# Altium footprint library Altium LCOGT PCB LIB.PCBLIB: 329 footprints (part 3 of 21)
Each footprint in its own frame and in the unit in brackets; x right, y up, seen from the top. Pads: shape width x height; smd on the part's side, far side on the other; paste and mask are expansions set on the pad; w line width, h text height; cw(c..) or ccw(c..) is an arc to the next point about the centre after c.
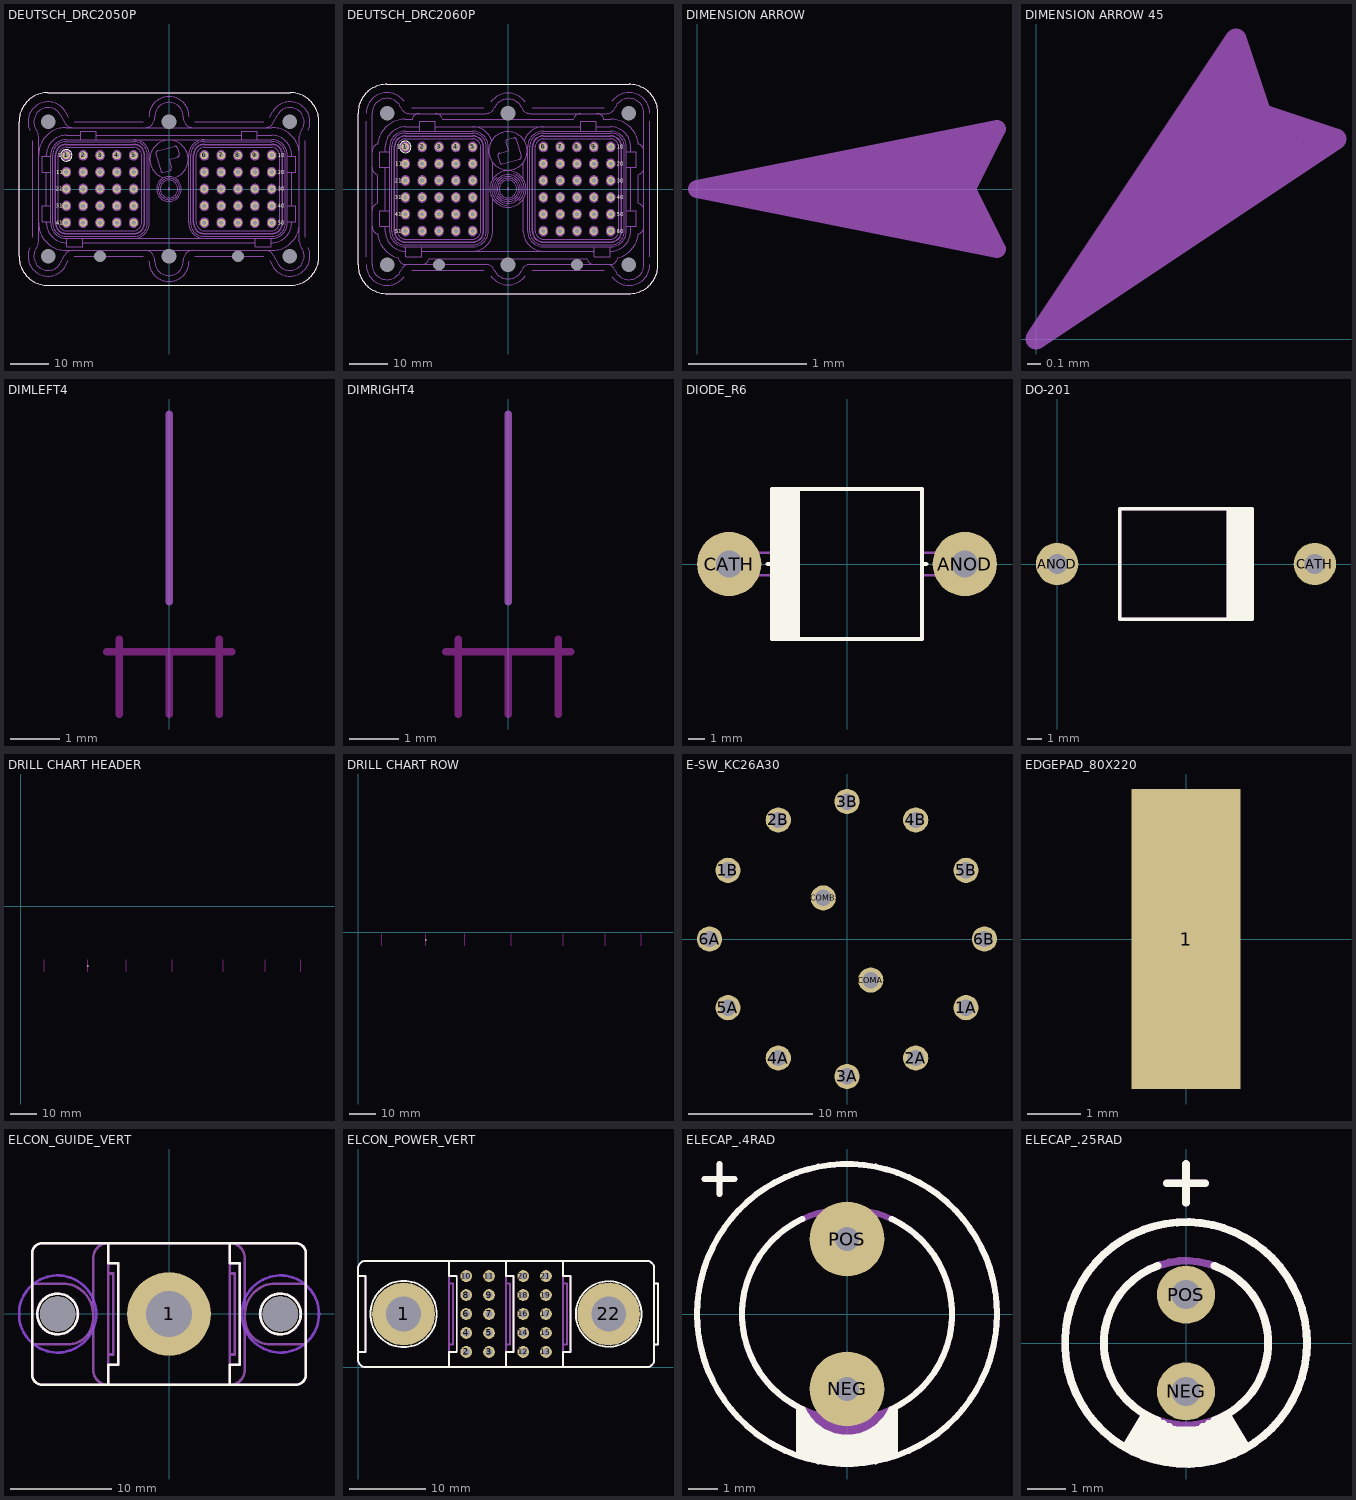
[diagram p2: the footprints below, top view; thin cyan lines are the x and y axes]

## DEUTSCH_DRC2050P [mil]
pads (58):
  round 80 hole 50: 1(-1061,348) 2(-887,348) 3(-713,348) 4(-539,348) 5(-365,348) 6(365,348) 7(539,348) 8(713,348) 9(887,348) 10(1061,348) 11(-1061,174) 12(-887,174) 13(-713,174) 14(-539,174) 15(-365,174) 16(365,174) 17(539,174) 18(713,174) 19(887,174) 20(1061,174) 21(-1061,0) 22(-887,0) 23(-713,0) 24(-539,0) 25(-365,0) 26(365,0) 27(539,0) 28(713,0) 29(887,0) 30(1061,0) 31(-1061,-174) 32(-887,-174) 33(-713,-174) 34(-539,-174) 35(-365,-174) 36(365,-174) 37(539,-174) 38(713,-174) 39(887,-174) 40(1061,-174) 41(-1061,-348) 42(-887,-348) 43(-713,-348) 44(-539,-348) 45(-365,-348) 46(365,-348) 47(539,-348) 48(713,-348) 49(887,-348) 50(1061,-348)
  round 20 hole 150 unplated: ""(-1250,-695) ""(-1250,695) ""(0,-695) ""(0,695) ""(1250,-695) ""(1250,695)
  round 20 hole 122 unplated: ""(-713,-695) ""(713,-695)
TopOverlay:
  circle w8: c-1061,348 r59
  lines w12: -1550,-697 ccw(c-1252,-697) -1252,-995 1252,-995 ccw(c1252,-697) 1550,-697 1550,697 ccw(c1252,697) 1252,995 -1252,995 ccw(c-1252,697) -1550,697 -1550,-697
  text "21" at -1171,-20 h40
  text "1" at -1151,328 h40
  text "11" at -1165,154 h40
  text "31" at -1171,-194 h40
  text "41" at -1171,-368 h40
  text "50" at 1126,-368 h40
  text "40" at 1126,-194 h40
  text "30" at 1126,-20 h40
  text "20" at 1126,154 h40
  text "10" at 1126,328 h40
BottomOverlay:
  circle w8: c-1061,348 r59
  text "50" at 1188,-368 h40
  text "30" at 1188,-20 h40
  text "20" at 1188,154 h40
  text "10" at 1182,328 h40
  text "40" at 1188,-194 h40
  text "41" at -1126,-368 h40
  text "31" at -1126,-194 h40
  text "21" at -1126,-20 h40
  text "11" at -1126,154 h40
  text "1" at -1141,328 h40
Mechanical3:
  drawing of 442 lines, arcs and shapes, not listed
  text "05" at 45,222 h74

## DEUTSCH_DRC2060P [mil]
pads (68):
  round 80 hole 50: 1(-1061,435) 2(-887,435) 3(-713,435) 4(-539,435) 5(-365,435) 6(365,435) 7(539,435) 8(713,435) 9(887,435) 10(1061,435) 11(-1061,261) 12(-887,261) 13(-713,261) 14(-539,261) 15(-365,261) 16(365,261) 17(539,261) 18(713,261) 19(887,261) 20(1061,261) 21(-1061,87) 22(-887,87) 23(-713,87) 24(-539,87) 25(-365,87) 26(365,87) 27(539,87) 28(713,87) 29(887,87) 30(1061,87) 31(-1061,-87) 32(-887,-87) 33(-713,-87) 34(-539,-87) 35(-365,-87) 36(365,-87) 37(539,-87) 38(713,-87) 39(887,-87) 40(1061,-87) 41(-1061,-261) 42(-887,-261) 43(-713,-261) 44(-539,-261) 45(-365,-261) 46(365,-261) 47(539,-261) 48(713,-261) 49(887,-261) 50(1061,-261) 51(-1061,-435) 52(-887,-435) 53(-713,-435) 54(-539,-435) 55(-365,-435) 56(365,-435) 57(539,-435) 58(713,-435) 59(887,-435) 60(1061,-435)
  round 20 hole 150 unplated: ""(-1250,-782) ""(-1250,782) ""(0,-782) ""(0,782) ""(1250,-782) ""(1250,782)
  round 20 hole 122 unplated: ""(-713,-782) ""(713,-782)
TopOverlay:
  circle w8: c-1061,435 r59
  lines w12: -1550,-784 ccw(c-1252,-784) -1252,-1082 1252,-1082 ccw(c1252,-784) 1550,-784 1550,784 ccw(c1252,784) 1252,1082 -1252,1082 ccw(c-1252,784) -1550,784 -1550,-784
  text "21" at -1171,67 h40
  text "1" at -1151,415 h40
  text "11" at -1165,241 h40
  text "31" at -1171,-107 h40
  text "41" at -1171,-281 h40
  text "50" at 1126,-281 h40
  text "40" at 1126,-107 h40
  text "30" at 1126,67 h40
  text "20" at 1126,241 h40
  text "10" at 1126,415 h40
  text "51" at -1171,-455 h40
  text "60" at 1126,-455 h40
BottomOverlay:
  circle w8: c-1061,435 r59
  text "50" at 1188,-281 h40
  text "30" at 1188,67 h40
  text "20" at 1188,241 h40
  text "10" at 1182,415 h40
  text "40" at 1188,-107 h40
  text "41" at -1126,-281 h40
  text "31" at -1126,-107 h40
  text "21" at -1126,67 h40
  text "11" at -1126,241 h40
  text "1" at -1141,415 h40
  text "60" at 1186,-455 h40
  text "51" at -1126,-455 h40
Mechanical3:
  drawing of 514 lines, arcs and shapes, not listed
  text "06" at -161,405 h74

## DIMENSION ARROW [mil]
Mechanical2:
  lines w6: 90,-10 0,0 ; 90,-5 0,0 ; 90,5 0,0 ; 90,10 0,0 ; 95,-15 0,0 ; 95,15 0,0 ; 0,0 90,0 ; 0,0 100,-20 90,0 ; 0,0 100,20 90,0

## DIMENSION ARROW 45 [mil]
Mechanical2:
  lines w6: 56.57,70.71 0,0 ; 56.57,77.78 0,0 ; 60.1,67.18 0,0 ; 67.18,60.1 0,0 ; 70.71,56.57 0,0 ; 77.78,56.57 0,0 ; 0,0 63.64,63.64 ; 0,0 84.85,56.57 63.64,63.64 ; 0,0 56.57,84.85 63.64,63.64

## DIMLEFT4 [mil]
KeepOutLayer:
  lines w6: -50,-215 50,-215 ; -40,-265 -40,-205 ; 0,-265 0,-215 ; 40,-265 40,-205
Mechanical2:
  lines w6: 0,-175 0,-25
  text "3.540" at 40,-507 h80

## DIMRIGHT4 [mil]
KeepOutLayer:
  lines w6: -50,-215 50,-215 ; -40,-265 -40,-205 ; 0,-265 0,-215 ; 40,-265 40,-205
Mechanical2:
  lines w6: 0,-175 0,-25
  text "3.540" at -40,-215 h80

## DIODE_R6 [mil]
pads (2):
  round 150 hole 62: ANOD(275,0) CATH(-275,0)
TopOverlay:
  lines w10: -185,0 -175,0 ; -170,-175 -170,175 ; -165,-175 -165,175 ; -160,-175 -160,175 ; -155,-175 -155,175 ; -150,-175 -150,175 ; -145,-175 -145,175 ; -140,-175 -140,175 ; -135,-175 -135,175 ; -130,-175 -130,175 ; -125,-175 -125,175 ; -120,-175 -120,175 ; -115,-175 -115,175 ; 175,0 185,0 ; -175,-175 175,-175 175,175 -175,175 -175,-175
Mechanical3:
  lines w6: -175,-26 -275,-26 cw(c-275,0) -275,26 -175,26 ; 175,-26 275,-26 ccw(c275,0) 275,26 175,26
  lines w10: -170,-175 -170,175 ; -165,-175 -165,175 ; -160,-175 -160,175 ; -155,-175 -155,175 ; -150,-175 -150,175 ; -145,-175 -145,175 ; -140,-175 -140,175 ; -135,-175 -135,175 ; -130,-175 -130,175 ; -125,-175 -125,175 ; -120,-175 -120,175 ; -115,-175 -115,175 ; -175,-175 175,-175 175,175 -175,175 -175,-175

## DO-201 [mil]
pads (2):
  round 115 hole 55: ANOD(0,0) CATH(700,0)
TopOverlay:
  rectangle: 460,-150 530,150
  lines w10: 170,-150 530,-150 530,0 530,150 170,150 170,0 170,-150
Mechanical3:
  rectangle: 460,-150 530,150
  lines w10: 170,-150 530,-150 530,0 530,150 170,150 170,0 170,-150

## DRILL CHART HEADER [mil]
pads (1):
  round 24 hole 20: ""(1000,-890)
KeepOutLayer:
  lines w6: 350,-975 350,-800 ; 1000,-975 1000,-800 ; 1575,-975 1575,-800 ; 2263,-975 2263,-800 ; 3025,-975 3025,-800 ; 3650,-975 3650,-800 ; 4175,-975 4175,-800
DrillDrawing:
  drawing of 440 lines, arcs and shapes, not listed
  text "+/- .004" at 2770,-925 h75
  text "TOLERANCE" at 2730,-700 h75
  text "PLATING" at 2065,-700 h75
  text "SYMBOL" at 800,-700 h75
  text "DIAMETER" at 120,-700 h75
  text "TOOL#" at 3495,-700 h75
  text "QTY" at 4080,-700 h75
  text "**  ALL DIMENSIONS AND TOLERANCES ARE IN INCHES (IN)  **" at 575,-475 h75
  text "REF LTR" at 1375,-700 h75
  text "-" at 4145,-925 h75
  text "PLATED" at 2080,-925 h75
  text "T01" at 3565,-925 h75
  text ".020" at 240,-925 h75
  text "-" at 1540,-925 h75

## DRILL CHART ROW [mil]
pads (1):
  round 24 hole 20: ""(1000,-115)
KeepOutLayer:
  lines w6: 350,-200 350,-25 ; 1000,-200 1000,-25 ; 1575,-200 1575,-25 ; 2263,-200 2263,-25 ; 3025,-200 3025,-25 ; 3650,-200 3650,-25 ; 4175,-200 4175,-25
DrillDrawing:
  lines w8: 25,0 4400,0
  lines w14: 0,-150 ccw(c50,-150) 50,-200 650,-200 ccw(c650,-150) 700,-150 700,-75 ccw(c650,-75) 650,-25 50,-25 ccw(c50,-75) 0,-75 0,-150 ; 725,-150 ccw(c775,-150) 775,-200 1225,-200 ccw(c1225,-150) 1275,-150 1275,-75 ccw(c1225,-75) 1225,-25 775,-25 ccw(c775,-75) 725,-75 725,-150 ; 1300,-150 ccw(c1350,-150) 1350,-200 1800,-200 ccw(c1800,-150) 1850,-150 1850,-75 ccw(c1800,-75) 1800,-25 1350,-25 ccw(c1350,-75) 1300,-75 1300,-150 ; 1875,-150 ccw(c1925,-150) 1925,-200 2600,-200 ccw(c2600,-150) 2650,-150 2650,-75 ccw(c2600,-75) 2600,-25 1925,-25 ccw(c1925,-75) 1875,-75 1875,-150 ; 2675,-150 ccw(c2725,-150) 2725,-200 3325,-200 ccw(c3325,-150) 3375,-150 3375,-75 ccw(c3325,-75) 3325,-25 2725,-25 ccw(c2725,-75) 2675,-75 2675,-150 ; 3400,-150 ccw(c3450,-150) 3450,-200 3850,-200 ccw(c3850,-150) 3900,-150 3900,-75 ccw(c3850,-75) 3850,-25 3450,-25 ccw(c3450,-75) 3400,-75 3400,-150 ; 3925,-150 ccw(c3975,-150) 3975,-200 4375,-200 ccw(c4375,-150) 4425,-150 4425,-75 ccw(c4375,-75) 4375,-25 3975,-25 ccw(c3975,-75) 3925,-75 3925,-150
  text "+/- .004" at 2770,-150 h75
  text "-" at 4145,-150 h75
  text "PLATED" at 2080,-150 h75
  text "T01" at 3565,-150 h75
  text ".020" at 240,-150 h75
  text "-" at 1540,-150 h75

## E-SW_KC26A30 [mil]
pads (14):
  round 80 hole 52: 1A(378.45,-218.5) 1B(-378.45,218.5) 2A(218.5,-378.45) 2B(-218.5,378.45) 3A(0,-437) 3B(0,437) 4A(-218.5,-378.45) 4B(218.5,378.45) 5A(-378.45,-218.5) 5B(378.45,218.5) 6A(-437,0) 6B(437,0) COMA(75.5,-130.77) COMB(-75.5,130.77)

## EDGEPAD_80X220 [mil]
pads (1):
  rect 80x220 smd: 1(0,0)

## ELCON_GUIDE_VERT [mm]
pads (3):
  round 8.255 hole 4.572: 1(0,0)
  round 3.5 hole 3.5 unplated: ""(-11,0) ""(11,0)
BottomLayer keep-out:
  circle w0.254: c11,0 r3.81
  circle w0.254: c-11,0 r3.81
TopOverlay:
  circle w0.254: c11,0 r2
  circle w0.254: c-11,0 r2
  lines w0.254: -6,-7 -6,-5 -5,-5 -5,5 -6,5 -6,7 ; 6,-7 6,-5 7,-5 7,5 6,5 6,7 ; -13.5,-6 ccw(c-12.5,-6) -12.5,-7 12.5,-7 ccw(c12.5,-6) 13.5,-6 13.5,6 ccw(c12.5,6) 12.5,7 -12.5,7 ccw(c-12.5,6) -13.5,6 -13.5,-6
Mechanical3:
  circle w0.254: c-11,0 r2.016
  circle w0.254: c11,0 r2.016
  lines w0.254: -13.5,-3 -10,-3 ccw(c-10,-0.5) -7.5,-0.5 -7.5,0 ccw(c-10.5,0) -10.5,3 -13.5,3 ; -6,-5 -5,-5 -5,5 -6,5 ; -6,-4 -5.5,-4 -5.5,4 -6,4 ; 6,-5 7,-5 7,5 6,5 ; 6,-4 6.5,-4 6.5,4 6,4 ; 13.5,-3 10,-3 cw(c10,-0.5) 7.5,-0.5 7.5,0 cw(c10.5,0) 10.5,3 13.5,3 ; 6,-7 ccw(c6,-5.5) 7.5,-5.5 7.5,5.5 ccw(c6,5.5) 6,7 ; 6,-7 6,7 ; 6,-7 6,7 ; -13.5,-6 ccw(c-12.5,-6) -12.5,-7 12.5,-7 ccw(c12.5,-6) 13.5,-6 13.5,6 ccw(c12.5,6) 12.5,7 -12.5,7 ccw(c-12.5,6) -13.5,6 -13.5,-6 ; -7.5,-5.5 ccw(c-6,-5.5) -6,-7 -6,7 ccw(c-6,5.5) -7.5,5.5 -7.5,-5.5

## ELCON_POWER_VERT [mm]
pads (22):
  round 8.255 hole 4.572: 1(6,7) 22(33,7)
  round 1.56 hole 0.94: 2(14.25,2) 3(17.25,2) 4(14.25,4.5) 5(17.25,4.5) 6(14.25,7) 7(17.25,7) 8(14.25,9.5) 9(17.25,9.5) 10(14.25,12) 11(17.25,12) 12(21.75,2) 13(24.75,2) 14(21.75,4.5) 15(24.75,4.5) 16(21.75,7) 17(24.75,7) 18(21.75,9.5) 19(24.75,9.5) 20(21.75,12) 21(24.75,12)
TopOverlay:
  circle w0.254: c6,7 r4.366
  circle w0.254: c33,7 r4.316
  lines w0.254: 0,2 1,2 1,12 0,12 ; 12,0 12,2 13,2 13,12 12,12 12,14 ; 19.5,0 19.5,2 20.5,2 20.5,12 19.5,12 19.5,14 ; 27,0 27,2 28,2 28,12 27,12 27,14 ; 39,3 39.5,3 39.5,11 39,11 ; 0,1 ccw(c1,1) 1,0 38,0 ccw(c38,1) 39,1 39,13 ccw(c38,13) 38,14 1,14 ccw(c1,13) 0,13 0,1
Mechanical3:
  lines w0.254: 0,2 1,2 1,12 0,12 ; 12,2 13,2 13,12 12,12 ; 12,3 12.5,3 12.5,11 12,11 ; 19.5,2 20.5,2 20.5,12 19.5,12 ; 19.5,3 20,3 20,11 19.5,11 ; 27,2 28,2 28,12 27,12 ; 27,3 27.5,3 27.5,11 27,11 ; 39,3 39.5,3 39.5,11 39,11 ; 12,0 19.5,0 ; 12,0 12,14 ; 12,0 12,14 ; 12,0 1,0 cw(c1,1) 0,1 0,13 cw(c1,13) 1,14 12,14 ; 12,14 19.5,14 ; 19.5,0 27,0 ; 19.5,0 19.5,14 ; 19.5,14 27,14 ; 27,0 27,14 ; 27,0 27,14 ; 27,0 38,0 ccw(c38,1) 39,1 39,13 ccw(c38,13) 38,14 27,14

## ELECAP_.4RAD [mil]
pads (2):
  round 100 hole 32: NEG(0,-100) POS(0,100)
TopOverlay:
  circle w8: c0,0 r200
  rectangle: -65,-189 65,-164
  lines w6: -65,-189 65,-189 ; -65,-188 -65,-125 ; -65,-164 -18,-164 ; -64,-161 -26,-161 ; -64,-158 -33,-158 ; -64,-155 -37,-155 ; -64,-152 -41,-152 ; -64,-149 -44,-149 ; -64,-143 -50,-143 ; -64,-140 -53,-140 ; -64,-137 -55,-137 ; -64,-134 -57,-134 ; -64,-131 -58,-131 ; -63,-146 -49,-146 ; -57,-192 57,-192 ; -45,-195 44,-195 ; -27,-198 27,-198 ; 18,-164 65,-164 ; 26,-161 64,-161 ; 33,-158 64,-158 ; 37,-155 64,-155 ; 41,-152 64,-152 ; 44,-149 64,-149 ; 49,-146 63,-146 ; 50,-143 64,-143 ; 53,-140 64,-140 ; 55,-137 64,-137 ; 57,-134 64,-134 ; 58,-131 64,-131 ; 65,-188 65,-125
  lines w8: -190,180 -150,180 ; -170,160 -170,200 ; -59.17,-126.88 cw(c0,0) -59.17,126.88 ; -59.07,-126.85 ccw(c0,-100) 59.1,-126.78 ; 59.17,-126.88 ccw(c0,0) 59.17,126.88
Mechanical3:
  circle w8: c0,0 r140
  circle w8: c0,0 r200
  rectangle: -65,-189 65,-140
  lines w6: -65,-188 -65,-125 ; -65,-140 -18,-140 ; -64,-134 -43,-134 ; -63,-137 -30,-137 ; -63,-131 -50,-131 ; -63,-128 -59,-128 ; -61,-189 0,-189 61,-189 ; -57,-192 0,-192 57,-192 ; -44,-195 0,-195 44,-195 ; -28,-198 0,-198 28,-198 ; 18,-140 63,-140 ; 30,-137 63,-137 ; 43,-134 64,-134 ; 50,-131 63,-131 ; 59,-128 63,-128 ; 65,-188 65,-125
  lines w8: -190,180 -150,180 ; -170,160 -170,200

## ELECAP_.25RAD [mil]
pads (2):
  round 60 hole 30: NEG(0,-50) POS(0,50)
TopOverlay:
  circle w8: c0,0 r125
  lines w7: -63,-108 -43,-74 ; -62,-108 62,-108 ; -59,-105 59,-105 ; -58,-102 58,-102 ; -55,-99 56,-99 ; -54,-112 53,-112 ; -54,-95 54,-95 ; -51,-92 51,-92 ; -51,-89 -12,-89 ; -47,-83 -23,-83 ; -45,-86 -17,-86 ; -45,-79 -33,-79 ; -42,-116 44,-116 ; -35,-119 35,-119 ; -22,-122 21,-122 ; -19,-90 16,-90 ; -11,-91 13,-91 ; 12,-89 50,-89 ; 17,-86 45,-86 ; 23,-83 46,-83 ; 34,-79 44,-79 ; 43,-74 63,-108
  lines w8: -29.07,-79.87 cw(c0,0) -29.07,79.87 ; -20,165 20,165 ; 0,145 0,185 ; 29.07,-79.87 ccw(c0,0) 29.07,79.87
Mechanical3:
  circle w8: c0,0 r125
  circle w8: c0,0 r85
  lines w7: -63,-108 -43,-74 ; -62,-108 62,-108 ; -59,-105 59,-105 ; -58,-102 58,-102 ; -55,-99 56,-99 ; -54,-112 53,-112 ; -54,-95 54,-95 ; -51,-92 51,-92 ; -51,-89 50,-89 ; -48,-86 48,-86 ; -47,-83 -19,-83 ; -45,-79 -33,-79 ; -42,-116 44,-116 ; -35,-119 35,-119 ; -22,-122 21,-122 ; 25,-83 46,-83 ; 34,-79 44,-79 ; 43,-74 63,-108
  lines w8: -20,165 20,165 ; 0,145 0,185